# Altium footprint library WL-SMCW_0805.PcbLib: 1 footprints
Each footprint in its own frame and in the unit in brackets; x right, y up, seen from the top. Pads: shape width x height; smd on the part's side, far side on the other; paste and mask are expansions set on the pad; w line width, h text height; cw(c..) or ccw(c..) is an arc to the next point about the centre after c.
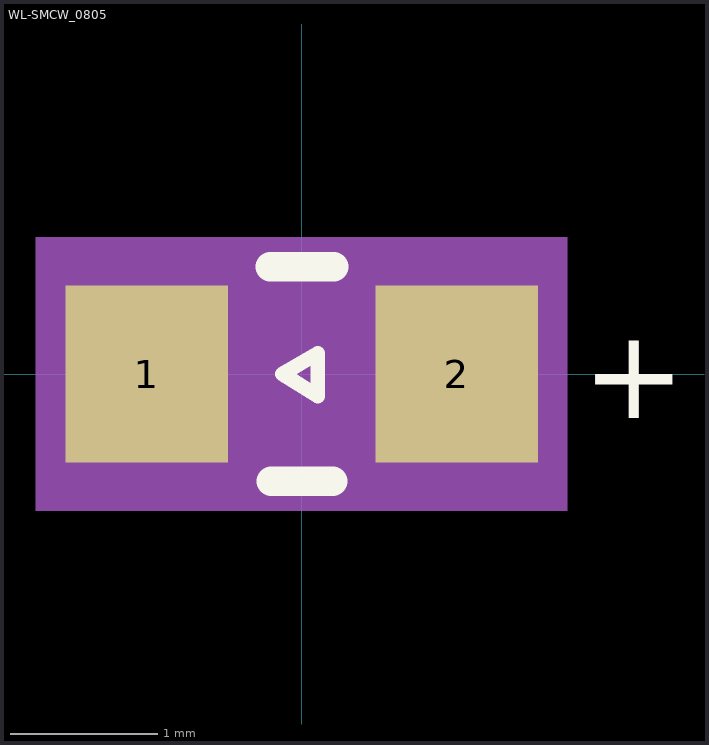
[diagram p0: the footprint, top view; thin cyan lines are the x and y axes]

## WL-SMCW_0805 [mm]
pads (2):
  rect 1.1x1.2 smd: 1(-1.05,0) 2(1.05,0)
Top Overlay:
  lines w0.1: -0.13,0 0.11,0.14 0.11,-0.15 -0.13,0
  lines w0.2: -0.213,0.725 0.219,0.725 ; -0.206,-0.725 0.212,-0.725
  text "+" at 1.9,-0.3 h0.61
Assembly Top:
  lines w0.1: -1,-0.625 1,-0.625 1,0.625 -1,0.625 -1,-0.625 ; -0.13,0 0.11,0.14 0.11,-0.15 -0.13,0
  text "+" at 1.9,-0.3 h0.61
Courtyard Top:
  region: 1.8,-0.925 -1.8,-0.925 -1.8,0.925 1.8,0.925
3D body "step_temp.STEP": height 0.63, standoff -0.63, extent -1,-0.7 1,0